# Altium footprint library CONN_W2B.PcbLib: 89 footprints (part 3 of 6)
Each footprint in its own frame and in the unit in brackets; x right, y up, seen from the top. Pads: shape width x height; smd on the part's side, far side on the other; paste and mask are expansions set on the pad; w line width, h text height; cw(c..) or ccw(c..) is an arc to the next point about the centre after c.
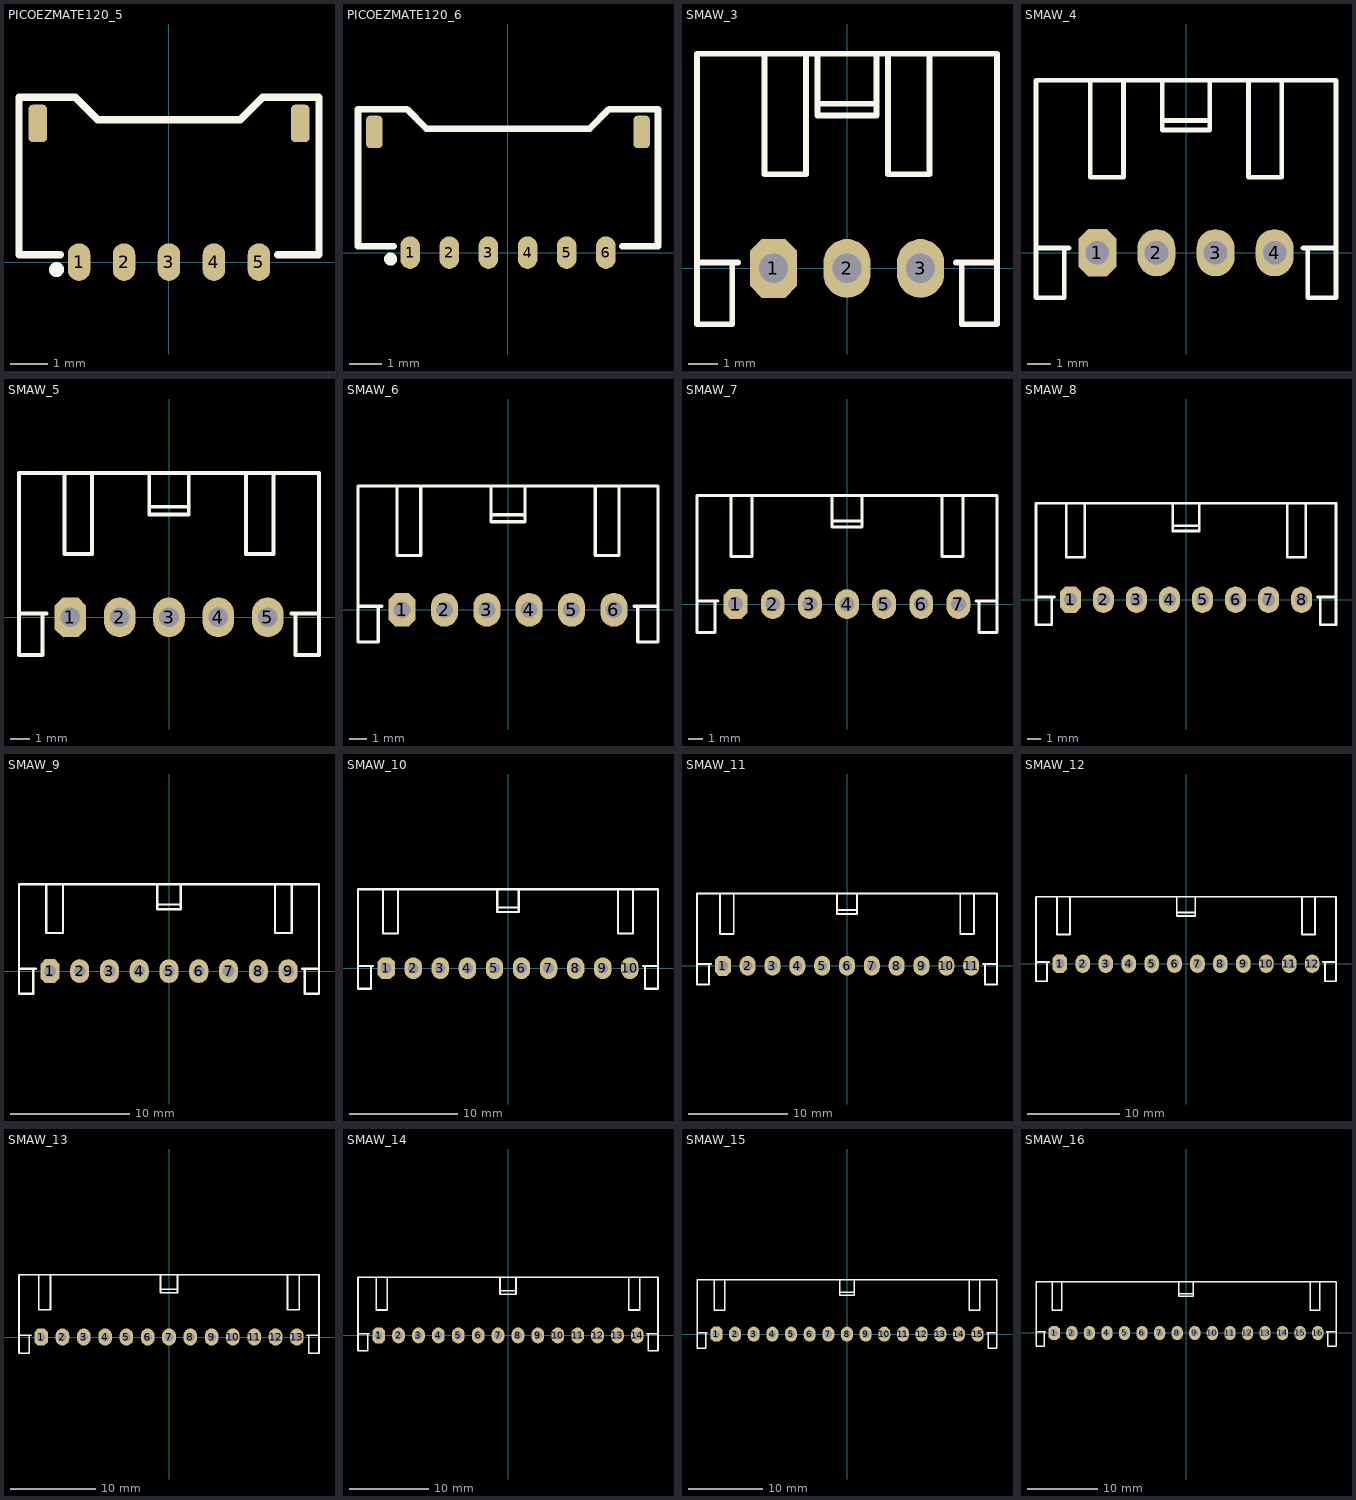
[diagram p2: the footprints below, top view; thin cyan lines are the x and y axes]

## PICOEZMATE120_5 [mm] "Pico-EZmate, Pitch: 1.2mm, Molex 78171"
height 4
pads (7):
  oval 0.6x1 smd mask+0.075: 1(-2.4,0) 2(-1.2,0) 3(0,0) 4(1.2,0) 5(2.4,0)
  rrect50% 0.5x1 smd: ""(-3.5,3.7) ""(3.5,3.7)
Top Overlay:
  circle w0.2: c-3,-0.2 r0.1
  lines w0.2: -2.9,0.2 -4,0.2 -4,4.4 -2.5,4.4 -1.9,3.8 1.9,3.8 2.5,4.4 4,4.4 4,0.2 2.9,0.2
3D body "781710005.stp": height 1.2, standoff -0.25, extent -3.9,-0.2 3.9,4.33

## PICOEZMATE120_6 [mm] "Pico-EZmate, Pitch: 1.2mm, Molex 78171"
height 4
pads (8):
  oval 0.6x1 smd mask+0.075: 1(-3,0) 2(-1.8,0) 3(-0.6,0) 4(0.6,0) 5(1.8,0) 6(3,0)
  rrect50% 0.5x1 smd: ""(-4.1,3.7) ""(4.1,3.7)
Top Overlay:
  circle w0.2: c-3.6,-0.2 r0.1
  lines w0.2: -3.5,0.2 -4.6,0.2 -4.6,4.4 -3.1,4.4 -2.5,3.8 2.5,3.8 3.1,4.4 4.6,4.4 4.6,0.2 3.5,0.2
3D body "781715006.stp": height 1.2, standoff -0.25, extent -4.5,-0.2 4.5,4.33

## SMAW_3 [mm] "SMAW, pitch: 2.5mm, Righ Angle"
pads (3):
  oct 1.6x2 hole 1: 1(-2.5,0)
  oval 1.6x2 hole 1: 2(0,0) 3(2.5,0)
Top Overlay:
  lines w0.2: -5.1,0.2 -3.7,0.2 ; -3.9,0.2 -3.9,-1.9 -5.1,-1.9 -5.1,7.3 5.1,7.3 5.1,-1.9 3.9,-1.9 3.9,0.2 ; -2.8,7.3 -2.8,3.2 -1.4,3.2 -1.4,7.3 ; -1,5.6 1,5.6 ; -1,7.3 -1,5.2 1,5.2 1,7.3 ; 1.4,7.3 1.4,3.2 2.8,3.2 2.8,7.3 ; 3.7,0.2 5.1,0.2
3D body "User Library-SMAW250-03G.step": height 6.44, standoff -3.45, extent -4.95,-1.8 4.95,7.2

## SMAW_4 [mm] "SMAW, pitch: 2.5mm, Righ Angle"
pads (4):
  oct 1.6x2 hole 1: 1(-3.75,0)
  oval 1.6x2 hole 1: 2(-1.25,0) 3(1.25,0) 4(3.75,0)
Top Overlay:
  lines w0.2: -6.35,0.2 -4.95,0.2 ; -5.15,0.2 -5.15,-1.9 -6.35,-1.9 -6.35,7.3 6.35,7.3 6.35,-1.9 5.15,-1.9 5.15,0.2 ; -4.05,7.3 -4.05,3.2 -2.65,3.2 -2.65,7.3 ; -1,5.6 1,5.6 ; -1,7.3 -1,5.2 1,5.2 1,7.3 ; 2.65,7.3 2.65,3.2 4.05,3.2 4.05,7.3 ; 4.95,0.2 6.35,0.2
3D body "User Library-SMAW250-04G.step": height 6.44, standoff -3.45, extent -6.2,-1.8 6.2,7.2

## SMAW_5 [mm] "SMAW, pitch: 2.5mm, Righ Angle"
pads (5):
  oct 1.6x2 hole 1: 1(-5,0)
  oval 1.6x2 hole 1: 2(-2.5,0) 3(0,0) 4(2.5,0) 5(5,0)
Top Overlay:
  lines w0.2: -7.6,0.2 -6.2,0.2 ; -6.4,0.2 -6.4,-1.9 -7.6,-1.9 -7.6,7.3 7.6,7.3 7.6,-1.9 6.4,-1.9 6.4,0.2 ; -5.3,7.3 -5.3,3.2 -3.9,3.2 -3.9,7.3 ; -1,5.6 1,5.6 ; -1,7.3 -1,5.2 1,5.2 1,7.3 ; 3.9,7.3 3.9,3.2 5.3,3.2 5.3,7.3 ; 6.2,0.2 7.6,0.2
3D body "User Library-SMAW250-05G.step": height 6.44, standoff -3.45, extent -7.45,-1.8 7.45,7.2

## SMAW_6 [mm] "SMAW, pitch: 2.5mm, Righ Angle"
pads (6):
  oct 1.6x2 hole 1: 1(-6.25,0)
  oval 1.6x2 hole 1: 2(-3.75,0) 3(-1.25,0) 4(1.25,0) 5(3.75,0) 6(6.25,0)
Top Overlay:
  lines w0.2: -8.85,0.2 -7.45,0.2 ; -7.65,0.2 -7.65,-1.9 -8.85,-1.9 -8.85,7.3 8.85,7.3 8.85,-1.9 7.65,-1.9 7.65,0.2 ; -6.55,7.3 -6.55,3.2 -5.15,3.2 -5.15,7.3 ; -1,5.6 1,5.6 ; -1,7.3 -1,5.2 1,5.2 1,7.3 ; 5.15,7.3 5.15,3.2 6.55,3.2 6.55,7.3 ; 7.45,0.2 8.85,0.2
3D body "User Library-SMAW250-06G.step": height 6.44, standoff -3.45, extent -8.7,-1.8 8.7,7.2

## SMAW_7 [mm] "SMAW, pitch: 2.5mm, Righ Angle"
pads (7):
  oct 1.6x2 hole 1: 1(-7.5,0)
  oval 1.6x2 hole 1: 2(-5,0) 3(-2.5,0) 4(0,0) 5(2.5,0) 6(5,0) 7(7.5,0)
Top Overlay:
  lines w0.2: -10.1,0.2 -8.7,0.2 ; -8.9,0.2 -8.9,-1.9 -10.1,-1.9 -10.1,7.3 10.1,7.3 10.1,-1.9 8.9,-1.9 8.9,0.2 ; -7.8,7.3 -7.8,3.2 -6.4,3.2 -6.4,7.3 ; -1,5.6 1,5.6 ; -1,7.3 -1,5.2 1,5.2 1,7.3 ; 6.4,7.3 6.4,3.2 7.8,3.2 7.8,7.3 ; 8.7,0.2 10.1,0.2
3D body "User Library-SMAW250-07G.step": height 6.44, standoff -3.45, extent -9.95,-1.8 9.95,7.2

## SMAW_8 [mm] "SMAW, pitch: 2.5mm, Righ Angle"
pads (8):
  oct 1.6x2 hole 1: 1(-8.75,0)
  oval 1.6x2 hole 1: 2(-6.25,0) 3(-3.75,0) 4(-1.25,0) 5(1.25,0) 6(3.75,0) 7(6.25,0) 8(8.75,0)
Top Overlay:
  lines w0.2: -11.35,0.2 -9.95,0.2 ; -10.15,0.2 -10.15,-1.9 -11.35,-1.9 -11.35,7.3 11.35,7.3 11.35,-1.9 10.15,-1.9 10.15,0.2 ; -9.05,7.3 -9.05,3.2 -7.65,3.2 -7.65,7.3 ; -1,5.6 1,5.6 ; -1,7.3 -1,5.2 1,5.2 1,7.3 ; 7.65,7.3 7.65,3.2 9.05,3.2 9.05,7.3 ; 9.95,0.2 11.35,0.2
3D body "User Library-SMAW250-08G.step": height 6.44, standoff -3.45, extent -11.2,-1.8 11.2,7.2

## SMAW_9 [mm] "SMAW, pitch: 2.5mm, Righ Angle"
pads (9):
  oct 1.6x2 hole 1: 1(-10,0)
  oval 1.6x2 hole 1: 2(-7.5,0) 3(-5,0) 4(-2.5,0) 5(0,0) 6(2.5,0) 7(5,0) 8(7.5,0) 9(10,0)
Top Overlay:
  lines w0.2: -12.6,0.2 -11.2,0.2 ; -11.4,0.2 -11.4,-1.9 -12.6,-1.9 -12.6,7.3 12.6,7.3 12.6,-1.9 11.4,-1.9 11.4,0.2 ; -10.3,7.3 -10.3,3.2 -8.9,3.2 -8.9,7.3 ; -1,5.6 1,5.6 ; -1,7.3 -1,5.2 1,5.2 1,7.3 ; 8.9,7.3 8.9,3.2 10.3,3.2 10.3,7.3 ; 11.2,0.2 12.6,0.2
3D body "User Library-SMAW250-09G.step": height 6.44, standoff -3.45, extent -12.45,-1.8 12.45,7.2

## SMAW_10 [mm] "SMAW, pitch: 2.5mm, Righ Angle"
pads (10):
  oct 1.6x2 hole 1: 1(-11.25,0)
  oval 1.6x2 hole 1: 2(-8.75,0) 3(-6.25,0) 4(-3.75,0) 5(-1.25,0) 6(1.25,0) 7(3.75,0) 8(6.25,0) 9(8.75,0) 10(11.25,0)
Top Overlay:
  lines w0.2: -13.85,0.2 -12.45,0.2 ; -12.65,0.2 -12.65,-1.9 -13.85,-1.9 -13.85,7.3 13.85,7.3 13.85,-1.9 12.65,-1.9 12.65,0.2 ; -11.55,7.3 -11.55,3.2 -10.15,3.2 -10.15,7.3 ; -1,5.6 1,5.6 ; -1,7.3 -1,5.2 1,5.2 1,7.3 ; 10.15,7.3 10.15,3.2 11.55,3.2 11.55,7.3 ; 12.45,0.2 13.85,0.2
3D body "User Library-SMAW250-10G.step": height 6.44, standoff -3.45, extent -13.7,-1.8 13.7,7.2

## SMAW_11 [mm] "SMAW, pitch: 2.5mm, Righ Angle"
pads (11):
  oct 1.6x2 hole 1: 1(-12.5,0)
  oval 1.6x2 hole 1: 2(-10,0) 3(-7.5,0) 4(-5,0) 5(-2.5,0) 6(0,0) 7(2.5,0) 8(5,0) 9(7.5,0) 10(10,0) 11(12.5,0)
Top Overlay:
  lines w0.2: -15.1,0.2 -13.7,0.2 ; -13.9,0.2 -13.9,-1.9 -15.1,-1.9 -15.1,7.3 15.1,7.3 15.1,-1.9 13.9,-1.9 13.9,0.2 ; -12.8,7.3 -12.8,3.2 -11.4,3.2 -11.4,7.3 ; -1,5.6 1,5.6 ; -1,7.3 -1,5.2 1,5.2 1,7.3 ; 11.4,7.3 11.4,3.2 12.8,3.2 12.8,7.3 ; 13.7,0.2 15.1,0.2
3D body "User Library-SMAW250-11G.step": height 6.44, standoff -3.45, extent -14.95,-1.8 14.95,7.2

## SMAW_12 [mm] "SMAW, pitch: 2.5mm, Righ Angle"
pads (12):
  oct 1.6x2 hole 1: 1(-13.75,0)
  oval 1.6x2 hole 1: 2(-11.25,0) 3(-8.75,0) 4(-6.25,0) 5(-3.75,0) 6(-1.25,0) 7(1.25,0) 8(3.75,0) 9(6.25,0) 10(8.75,0) 11(11.25,0) 12(13.75,0)
Top Overlay:
  lines w0.2: -16.35,0.2 -14.95,0.2 ; -15.15,0.2 -15.15,-1.9 -16.35,-1.9 -16.35,7.3 16.35,7.3 16.35,-1.9 15.15,-1.9 15.15,0.2 ; -14.05,7.3 -14.05,3.2 -12.65,3.2 -12.65,7.3 ; -1,5.6 1,5.6 ; -1,7.3 -1,5.2 1,5.2 1,7.3 ; 12.65,7.3 12.65,3.2 14.05,3.2 14.05,7.3 ; 14.95,0.2 16.35,0.2
3D body "User Library-SMAW250-12G.step": height 6.44, standoff -3.45, extent -16.2,-1.8 16.2,7.2

## SMAW_13 [mm] "SMAW, pitch: 2.5mm, Righ Angle"
pads (13):
  oct 1.6x2 hole 1: 1(-15,0)
  oval 1.6x2 hole 1: 2(-12.5,0) 3(-10,0) 4(-7.5,0) 5(-5,0) 6(-2.5,0) 7(0,0) 8(2.5,0) 9(5,0) 10(7.5,0) 11(10,0) 12(12.5,0) 13(15,0)
Top Overlay:
  lines w0.2: -17.6,0.2 -16.2,0.2 ; -16.4,0.2 -16.4,-1.9 -17.6,-1.9 -17.6,7.3 17.6,7.3 17.6,-1.9 16.4,-1.9 16.4,0.2 ; -15.3,7.3 -15.3,3.2 -13.9,3.2 -13.9,7.3 ; -1,5.6 1,5.6 ; -1,7.3 -1,5.2 1,5.2 1,7.3 ; 13.9,7.3 13.9,3.2 15.3,3.2 15.3,7.3 ; 16.2,0.2 17.6,0.2
3D body "User Library-SMAW250-13G.step": height 6.44, standoff -3.45, extent -17.45,-1.8 17.45,7.2

## SMAW_14 [mm] "SMAW, pitch: 2.5mm, Righ Angle"
pads (14):
  oct 1.6x2 hole 1: 1(-16.25,0)
  oval 1.6x2 hole 1: 2(-13.75,0) 3(-11.25,0) 4(-8.75,0) 5(-6.25,0) 6(-3.75,0) 7(-1.25,0) 8(1.25,0) 9(3.75,0) 10(6.25,0) 11(8.75,0) 12(11.25,0) 13(13.75,0) 14(16.25,0)
Top Overlay:
  lines w0.2: -18.85,0.2 -17.45,0.2 ; -17.65,0.2 -17.65,-1.9 -18.85,-1.9 -18.85,7.3 18.85,7.3 18.85,-1.9 17.65,-1.9 17.65,0.2 ; -16.55,7.3 -16.55,3.2 -15.15,3.2 -15.15,7.3 ; -1,5.6 1,5.6 ; -1,7.3 -1,5.2 1,5.2 1,7.3 ; 15.15,7.3 15.15,3.2 16.55,3.2 16.55,7.3 ; 17.45,0.2 18.85,0.2
3D body "User Library-SMAW250-14G.step": height 6.44, standoff -3.45, extent -18.7,-1.8 18.7,7.2

## SMAW_15 [mm] "SMAW, pitch: 2.5mm, Righ Angle"
pads (15):
  oct 1.6x2 hole 1: 1(-17.5,0)
  oval 1.6x2 hole 1: 2(-15,0) 3(-12.5,0) 4(-10,0) 5(-7.5,0) 6(-5,0) 7(-2.5,0) 8(0,0) 9(2.5,0) 10(5,0) 11(7.5,0) 12(10,0) 13(12.5,0) 14(15,0) 15(17.5,0)
Top Overlay:
  lines w0.2: -20.1,0.2 -18.7,0.2 ; -18.9,0.2 -18.9,-1.9 -20.1,-1.9 -20.1,7.3 20.1,7.3 20.1,-1.9 18.9,-1.9 18.9,0.2 ; -17.8,7.3 -17.8,3.2 -16.4,3.2 -16.4,7.3 ; -1,5.6 1,5.6 ; -1,7.3 -1,5.2 1,5.2 1,7.3 ; 16.4,7.3 16.4,3.2 17.8,3.2 17.8,7.3 ; 18.7,0.2 20.1,0.2
3D body "User Library-SMAW250-15G.step": height 6.44, standoff -3.45, extent -19.95,-1.8 19.95,7.2

## SMAW_16 [mm] "SMAW, pitch: 2.5mm, Righ Angle"
pads (16):
  oct 1.6x2 hole 1: 1(-18.75,0)
  oval 1.6x2 hole 1: 2(-16.25,0) 3(-13.75,0) 4(-11.25,0) 5(-8.75,0) 6(-6.25,0) 7(-3.75,0) 8(-1.25,0) 9(1.25,0) 10(3.75,0) 11(6.25,0) 12(8.75,0) 13(11.25,0) 14(13.75,0) 15(16.25,0) 16(18.75,0)
Top Overlay:
  lines w0.2: -21.35,0.2 -19.95,0.2 ; -20.15,0.2 -20.15,-1.9 -21.35,-1.9 -21.35,7.3 21.35,7.3 21.35,-1.9 20.15,-1.9 20.15,0.2 ; -19.05,7.3 -19.05,3.2 -17.65,3.2 -17.65,7.3 ; -1,5.6 1,5.6 ; -1,7.3 -1,5.2 1,5.2 1,7.3 ; 17.65,7.3 17.65,3.2 19.05,3.2 19.05,7.3 ; 19.95,0.2 21.35,0.2
3D body "User Library-SMAW250-16G.step": height 6.44, standoff -3.45, extent -21.2,-1.8 21.2,7.2